# EAGLE library part 62101421921 (library Wuerth_Elektronik_eiCan_Pin_&_Socked_Headers_v1.3)
WR-PHD 2.00mm Dual SMT Pin Header, 14 Pins
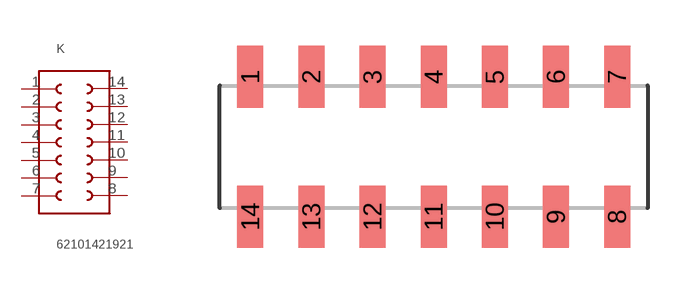
[diagram p282: symbol with the pads of 62101421921; footprint 62101421921]

Designator prefix K

## 62101421921  [62101421921]
1  1  pas
2  2  pas
3  3  pas
4  4  pas
5  5  pas
6  6  pas
7  7  pas
8  8  pas
9  9  pas
10  10  pas
11  11  pas
12  12  pas
13  13  pas
14  14  pas

## Footprint 62101421921 (pad centres in mm)
WR-PHD 2.00mm Dual SMT Pin Header, 14 Pins
smd 0.85 x 2.03: 1 -9.54,2.285; 2 -7.54,2.285; 3 -5.54,2.285; 4 -3.54,2.285; 5 -1.54,2.285; 6 0.46,2.285; 7 2.46,2.285; 8 2.46,-2.285; 9 0.46,-2.285; 10 -1.54,-2.285; 11 -3.54,-2.285; 12 -5.54,-2.285; 13 -7.54,-2.285; 14 -9.54,-2.285